# Altium schematic symbol library Librairie_V1.SchLib: 14 symbols
Pins are listed as number, name and electrical type; pins without a type are passive.

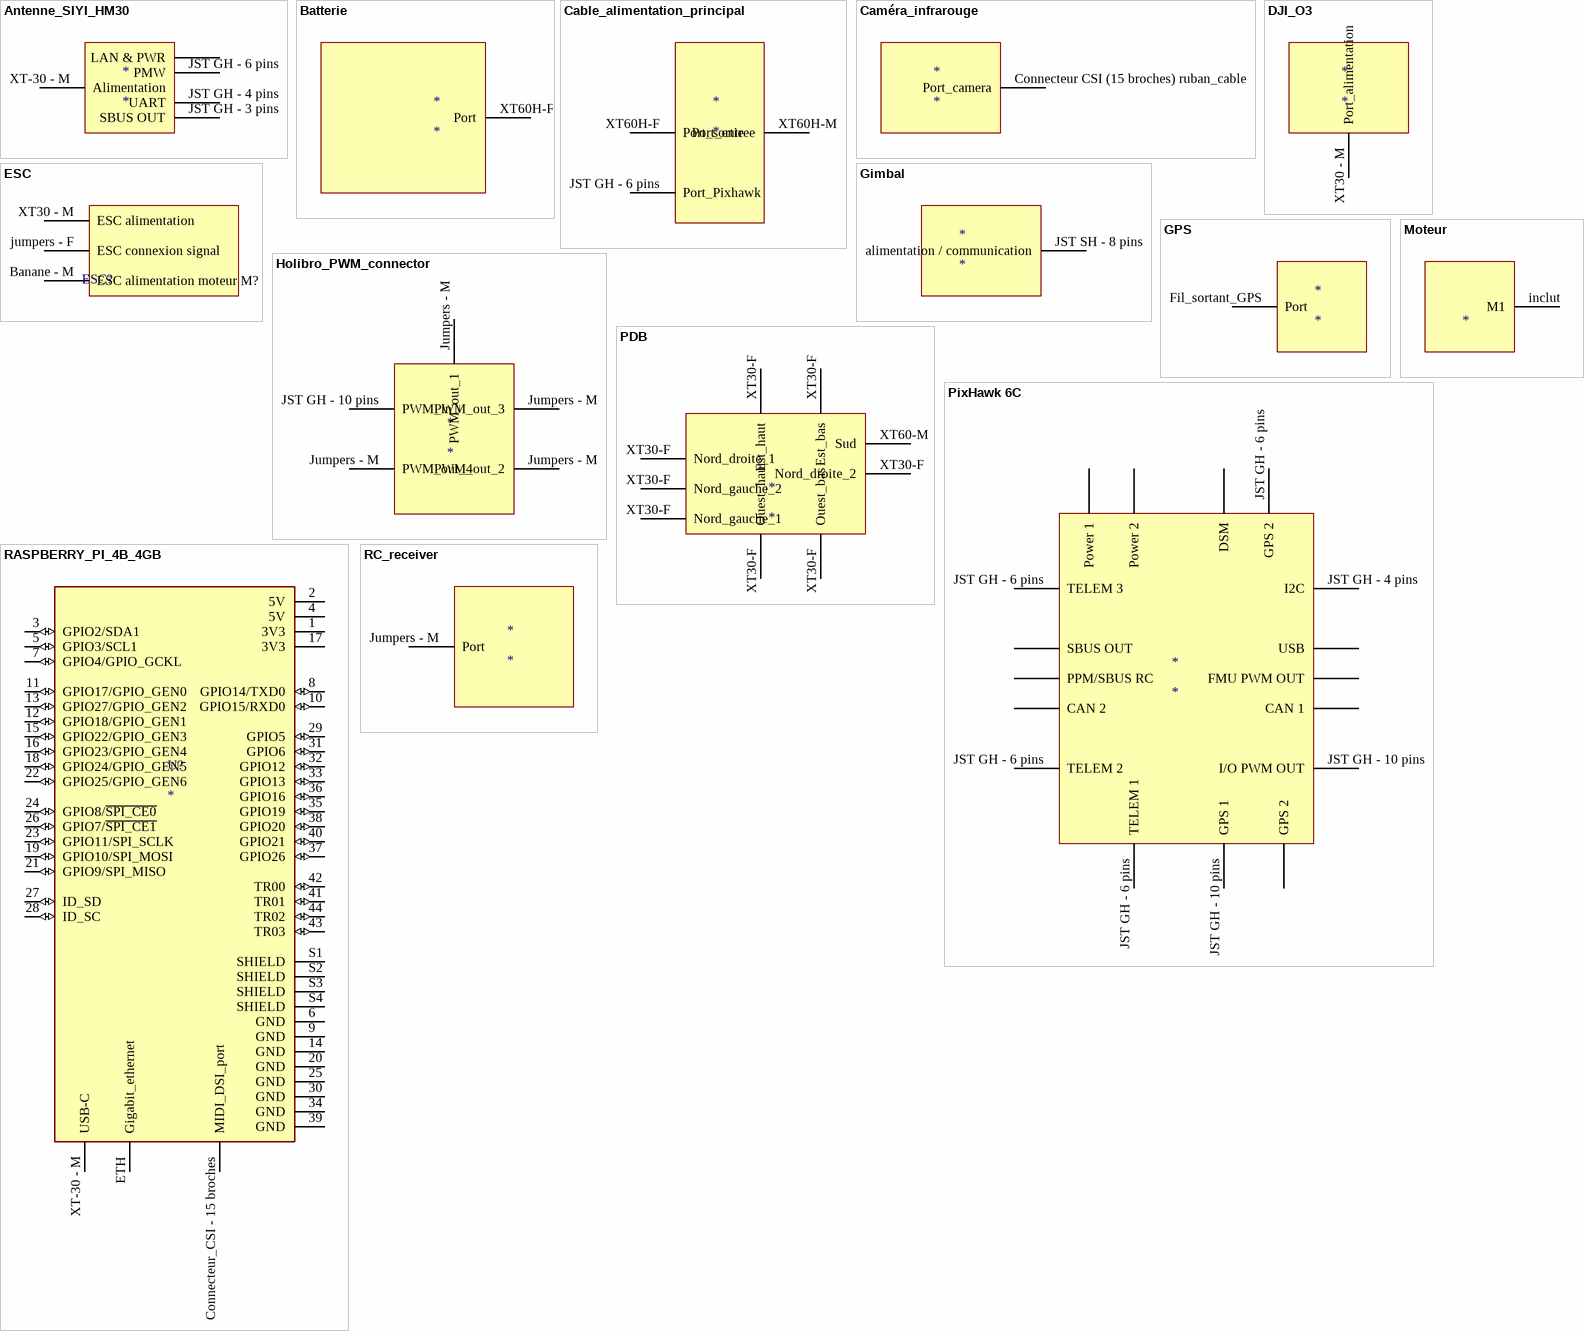
[diagram p0: symbols Antenne_SIYI_HM30 to RC_receiver]

## Antenne_SIYI_HM30
designator *
pins: ?1 LAN & PWR, JST GH - 3 pins SBUS OUT, JST GH - 4 pins UART, JST GH - 6 pins PMW, XT-30 - M Alimentation

## Batterie
designator *
pins: XT60H-F Port

## Cable_alimentation_principal
designator *
pins: JST GH - 6 pins Port_Pixhawk, XT60H-F Port_sortie, XT60H-M Port_entree

## Caméra_infrarouge
designator *
pins: Connecteur CSI (15 broches) ruban_cable Port_camera

## DJI_O3
designator *
pins: XT30 - M Port_alimentation

## ESC
designator ESC?  (value not drawn)
pins: Banane - M ESC alimentation moteur M?, jumpers - F ESC connexion signal, XT30 - M ESC alimentation

## Gimbal
designator *
pins: JST SH - 8 pins alimentation / communication

## GPS
designator *
pins: Fil_sortant_GPS Port

## Holibro_PWM_connector
designator *
pins: JST GH - 10 pins PWM_in, Jumpers - M PWM_out_3, Jumpers - M PWM_out_2, Jumpers - M PWM_out_4, Jumpers - M PWM_out_1

## Moteur
designator M?
pins: inclut M1

## PDB
designator *
pins: XT30-F Est_haut, XT30-F Est_bas, XT30-F Ouest_haut, XT30-F Ouest_bas, XT30-F Nord_gauche_1, XT30-F Nord_gauche_2, XT30-F Nord_droite_1, XT30-F Nord_droite_2, XT60-M Sud

## PixHawk 6C
designator *
pins: ?1 Power 1, ?2 Power 2, ?3 DSM, ?4 USB, ?5 CAN 1, ?6 SBUS OUT, ?7 CAN 2, ?8 GPS 2, ?9 FMU PWM OUT, ?10 PPM/SBUS RC, JST GH - 4 pins I2C, JST GH - 6 pins TELEM 3, JST GH - 6 pins TELEM 2, JST GH - 6 pins TELEM 1, JST GH - 6 pins GPS 2, JST GH - 10 pins I/O PWM OUT, JST GH - 10 pins GPS 1

## RASPBERRY_PI_4B_4GB
designator U?
BCM2711 Raspberry Pi 4 Model B 4GB - ARMÂ® CortexÂ®-A72 MPU Embedded Evaluation Board; MP: RASPBERRY PI 4B/4GB; SnapEDA_Link: https://www.snapeda.com/parts/RASPBERRY%20PI%204B/4GB/Raspberry+Pi/view-part/?ref=snap; Package: None; Value: *; MF: Raspberry Pi; Check_prices: https://www.snapeda.com/parts/RASPBERRY%20PI%204B/4GB/Raspberry+Pi/view-part/?ref=eda
footprint MODULE_RASPBERRY_PI_4B_4GB
pins: 1 3V3 (power), 2 5V (power), 3 GPIO2/SDA1 (io), 4 5V (power), 5 GPIO3/SCL1 (io), 6 GND (power), 7 GPIO4/GPIO_GCKL (io), 8 GPIO14/TXD0 (io), 9 GND (power), 10 GPIO15/RXD0 (io), 11 GPIO17/GPIO_GEN0 (io), 12 GPIO18/GPIO_GEN1 (io), 13 GPIO27/GPIO_GEN2 (io), 14 GND (power), 15 GPIO22/GPIO_GEN3 (io), 16 GPIO23/GPIO_GEN4 (io), 17 3V3 (power), 18 GPIO24/GPIO_GEN5 (io), 19 GPIO10/SPI_MOSI (io), 20 GND (power), 21 GPIO9/SPI_MISO (io), 22 GPIO25/GPIO_GEN6 (io), 23 GPIO11/SPI_SCLK (io), 24 GPIO8/~{SPI_CE0} (io), 25 GND (power), 26 GPIO7/~{SPI_CE1} (io), 27 ID_SD (io), 28 ID_SC (io), 29 GPIO5 (io), 30 GND (power), 31 GPIO6 (io), 32 GPIO12 (io), 33 GPIO13 (io), 34 GND (power), 35 GPIO19 (io), 36 GPIO16 (io), 37 GPIO26 (io), 38 GPIO20 (io), 39 GND (power), 40 GPIO21 (io), 41 TR01 (io), 42 TR00 (io), 43 TR03 (io), 44 TR02 (io), Connecteur_CSI - 15 broches MIDI_DSI_port (power), ETH Gigabit_ethernet (power), S1 SHIELD (power), S2 SHIELD (power), S3 SHIELD (power), S4 SHIELD (power), XT-30 - M USB-C  (power)

## RC_receiver
designator *
pins: Jumpers - M Port